# EAGLE library part XTR110 (library ic)
XTR110: 4-20mA current transmitter (Burr-Brown) 36V
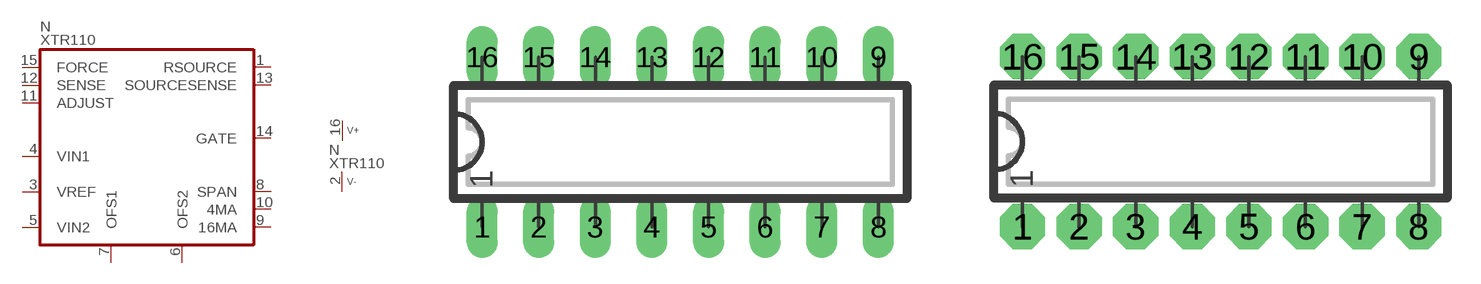
[diagram p99: symbol with the pads of DIP16L; footprints DIP16L, DIP16N]

Designator prefix N; gates  =XTR110 P=V+-

## XTR110  [DIP16L]
1   :RSOURCE  out
2  P:V-  pwr
3   :VREF  in
4   :VIN1  in
5   :VIN2  in
6   :OFS2
7   :OFS1
8   :SPAN  in
9   :16MA  in
10   :4MA  in
11   :ADJUST
12   :SENSE  in
13   :SOURCESENSE  in
14   :GATE  out
15   :FORCE  out
16  P:V+  pwr

## XTR110L  [DIP16L]
Pads as for DIP16L

## XTR110N  [DIP16N]
Pads as for DIP16L

## XTR110R  [DIP16R]
Pads as for DIP16L

## Footprint DIP16L (pad centres in mm)
DIP-16, long pads Standard IC package, 16 pins
drill 0.813 pad 1.397 long: 1 -8.89,-3.81; 2 -6.35,-3.81; 3 -3.81,-3.81; 4 -1.27,-3.81; 5 1.27,-3.81; 6 3.81,-3.81; 7 6.35,-3.81; 8 8.89,-3.81; 9 8.89,3.81; 10 6.35,3.81; 11 3.81,3.81; 12 1.27,3.81; 13 -1.27,3.81; 14 -3.81,3.81; 15 -6.35,3.81; 16 -8.89,3.81

## Footprint DIP16N (pad centres in mm)
DIP-16 Standard IC package, 16 pins
drill 0.813 pad 2.032 octagon: 1 -8.89,-3.81; 2 -6.35,-3.81; 3 -3.81,-3.81; 4 -1.27,-3.81; 5 1.27,-3.81; 6 3.81,-3.81; 7 6.35,-3.81; 8 8.89,-3.81; 9 8.89,3.81; 10 6.35,3.81; 11 3.81,3.81; 12 1.27,3.81; 13 -1.27,3.81; 14 -3.81,3.81; 15 -6.35,3.81; 16 -8.89,3.81

## Footprint DIP16R (pad centres in mm)
DIP-16, reduced pads Standard IC package, 16 pins
drill 0.813 pad 1.397 square: 1 -8.89,-3.81; 2 -6.35,-3.81; 3 -3.81,-3.81; 4 -1.27,-3.81; 5 1.27,-3.81; 6 3.81,-3.81; 7 6.35,-3.81; 8 8.89,-3.81; 9 8.89,3.81; 10 6.35,3.81; 11 3.81,3.81; 12 1.27,3.81; 13 -1.27,3.81; 14 -3.81,3.81; 15 -6.35,3.81; 16 -8.89,3.81